# Altium footprint library nexperia_sot1210.PcbLib: 1 footprints
Each footprint in its own frame and in the unit in brackets; x right, y up, seen from the top. Pads: shape width x height; smd on the part's side, far side on the other; paste and mask are expansions set on the pad; w line width, h text height; cw(c..) or ccw(c..) is an arc to the next point about the centre after c.
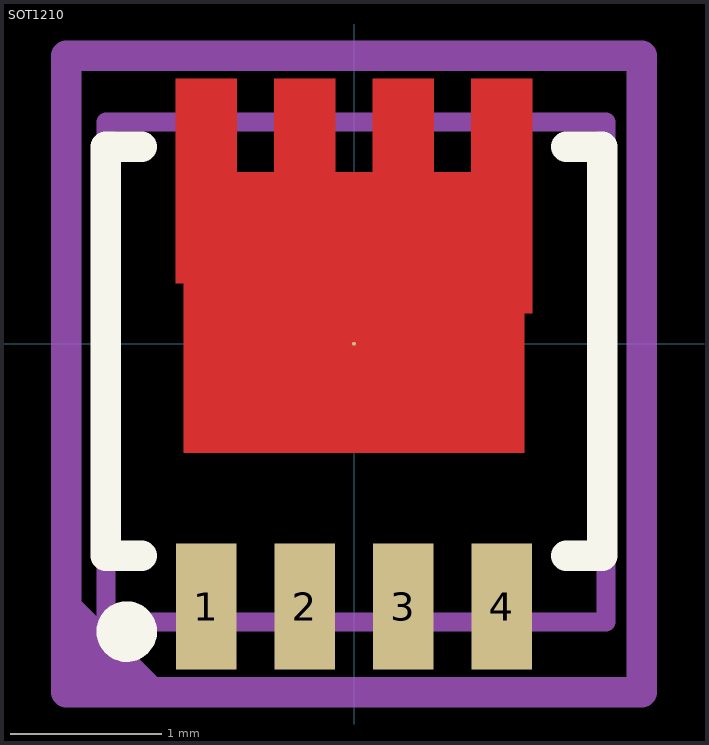
[diagram p0: the footprint, top view; thin cyan lines are the x and y axes]

## SOT1210 [mm]
height 0.9
pads (5):
  rect 0.4x0.83 smd: 1(-0.975,-1.735) 2(-0.325,-1.735) 3(0.325,-1.735) 4(0.975,-1.735)
  round 0.025 smd: 5(0,0)
Top Layer:
  region: -1.125,0.4 -1.175,0.4 -1.175,1.75 -0.775,1.75 -0.775,1.13 -0.525,1.13 -0.525,1.75 -0.125,1.75 -0.125,1.13 0.125,1.13 0.125,1.75 0.525,1.75 0.525,1.13 0.775,1.13 0.775,1.75 1.175,1.75 1.175,0.2 1.125,0.2 1.125,-0.72 -1.125,-0.72
Top Overlay:
  circle w0.2: c-1.5,-1.9 r0.1
  lines w0.2: -1.4,-1.4 -1.637,-1.4 -1.637,1.3 -1.4,1.3 ; 1.4,-1.4 1.637,-1.4 1.637,1.3 1.4,1.3
Top 3D Body:
  lines w0.127: -1.637,-1.837 1.663,-1.837 1.663,1.463 -1.637,1.463 -1.637,-1.837
Top Courtyard:
  region: -1.9,-2.3 -1.2,-2.3 -1.9,-1.6
  lines w0.2: -1.9,-2.3 -1.9,1.9 1.9,1.9 1.9,-2.3 -1.9,-2.3
Top Designator (Mech17):
  text ".Designator" at -1.05,-0.19 h0.48
3D body "SOT1210.step": height 0.87, standoff 0.01, extent -1.637,-1.837 1.663,1.463